# Altium footprint library microphone.PcbLib: 2 footprints
Each footprint in its own frame and in the unit in brackets; x right, y up, seen from the top. Pads: shape width x height; smd on the part's side, far side on the other; paste and mask are expansions set on the pad; w line width, h text height; cw(c..) or ccw(c..) is an arc to the next point about the centre after c.
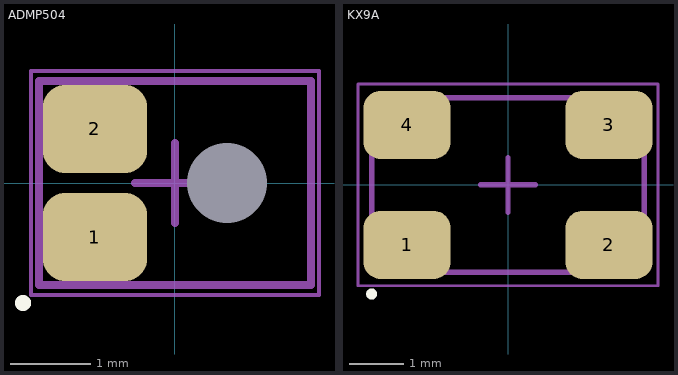
[diagram p0: the footprints below, top view; thin cyan lines are the x and y axes]

## ADMP504 [mm] "INMP504ACEZ-R7"
height 1
pads (3):
  rrect50% 1.3x1.1 smd: 1(-1,-0.675) 2(-1,0.675)
  round 0.3 hole 1 unplated: ""(0.65,0)
Top Overlay:
  circle w0.1: c-1.9,-1.5 r0.05
Mechanical 13:
  lines w0.1: -1.7,-1.275 -1.7,1.275 1.7,1.275 1.7,-1.275 -1.7,-1.275
Mechanical 15:
  lines w0.05: -1.8,-1.4 -1.8,1.4 1.8,1.4 1.8,-1.4 -1.8,-1.4
  lines w0.1: -0.5,0 0.5,0 ; 0,-0.5 0,0.5
3D body "User Library-ADMP504_ws.STEP": height 0.98, standoff -0.01, extent -1.713,-1.288 1.715,1.292

## KX9A [mm] "KX9A, IPC Medium Density"
height 1
pads (4):
  rrect50% 1.6x1.25 smd: 1(-1.85,-1.1) 2(1.85,-1.1) 3(1.85,1.1) 4(-1.85,1.1)
Top Overlay:
  circle w0.1: c-2.5,-2 r0.05
Mechanical 13:
  lines w0.1: -2.5,-1.6 2.5,-1.6 2.5,1.6 -2.5,1.6 -2.5,-1.6
Mechanical 15:
  lines w0.05: -2.75,-1.85 2.75,-1.85 2.75,1.85 -2.75,1.85 -2.75,-1.85
  lines w0.1: -0.5,0 0.5,0 ; 0,-0.5 0,0.5
3D body "GeyerElectronics_KX9A.step": height 1.01, standoff 0, extent -2.5,-1.6 2.5,1.6